# EAGLE library part MAX9755 (library Audio-Power-amlifier V.2.0)
The MAX9755 combine a stereo, 2.6W audio power amplifier and stereo DirectDrive® 110mW headphone amplifier in a single device. The headphone amplifier uses Maxim’s DirectDrive architecture that produces a ground-referenced output from a single supply, eliminating the need for large DC-blocking capacitors, saving cost, space, and component height. A high 90dB PSRR and low 0.01% THD+N ensures clean, low-distortion amplification of the audio signal.
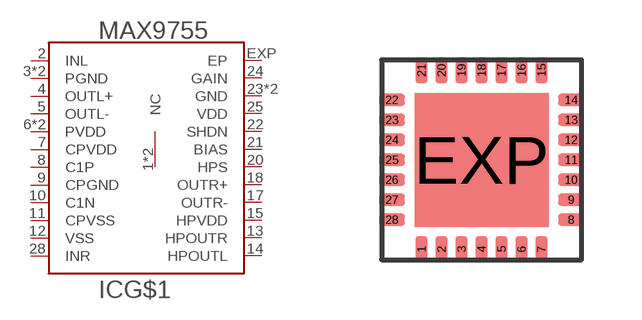
[diagram p243: symbol with the pads of TQFN28-5X5X0,8; footprint TQFN28-5X5X0,8]

Designator prefix IC; gates G$1=MAX9755 G$2=NC

## MAX9755  [TQFN28-5X5X0,8]
1  G$2:NC  nc
2  G$1:INL  in
3  G$1:PGND  pwr
4  G$1:OUTL+  out
5  G$1:OUTL-  out
6  G$1:PVDD  pwr
7  G$1:CPVDD  pwr
8  G$1:C1P
9  G$1:CPGND  pwr
10  G$1:C1N  in
11  G$1:CPVSS  pwr
12  G$1:VSS  pwr
13  G$1:HPOUTR  out
14  G$1:HPOUTL  out
15  G$1:HPVDD  pwr
16  G$1:PVDD  pwr
17  G$1:OUTR-  out
18  G$1:OUTR+  out
19  G$1:PGND  pwr
20  G$1:HPS  in
21  G$1:BIAS
22  G$1:SHDN
23  G$1:GND  pwr
24  G$1:GAIN  in
25  G$1:VDD  pwr
26  G$1:GND  pwr
27  G$2:NC  nc
28  G$1:INR  in
EXP  G$1:EP  pwr

## Footprint TQFN28-5X5X0,8 (pad centres in mm)
TQFN28-5x5x0,8 Source: www.maxim-ic.com/packages
smd 0.305 x 0.65: 1 -1.5,-2.24; 2 -1,-2.24; 3 -0.5,-2.24; 4 0,-2.24; 5 0.5,-2.24; 6 1,-2.24; 7 1.5,-2.24; 15 1.5,2.24; 16 1,2.24; 17 0.5,2.24; 18 0,2.24; 19 -0.5,2.24; 20 -1,2.24; 21 -1.5,2.24
smd 0.65 x 0.305: 8 2.24,-1.5; 9 2.24,-1; 10 2.24,-0.5; 11 2.24,0; 12 2.24,0.5; 13 2.24,1; 14 2.24,1.5; 22 -2.24,1.5; 23 -2.24,1; 24 -2.24,0.5; 25 -2.24,0; 26 -2.24,-0.5; 27 -2.24,-1; 28 -2.24,-1.5
smd 3.35 x 3.35: EXP 0,0